# Altium integrated library ISSI SRAM Synchronous SRAM No-Wait(ZBT).IntLib: 1246 symbols (part 29 of 152)
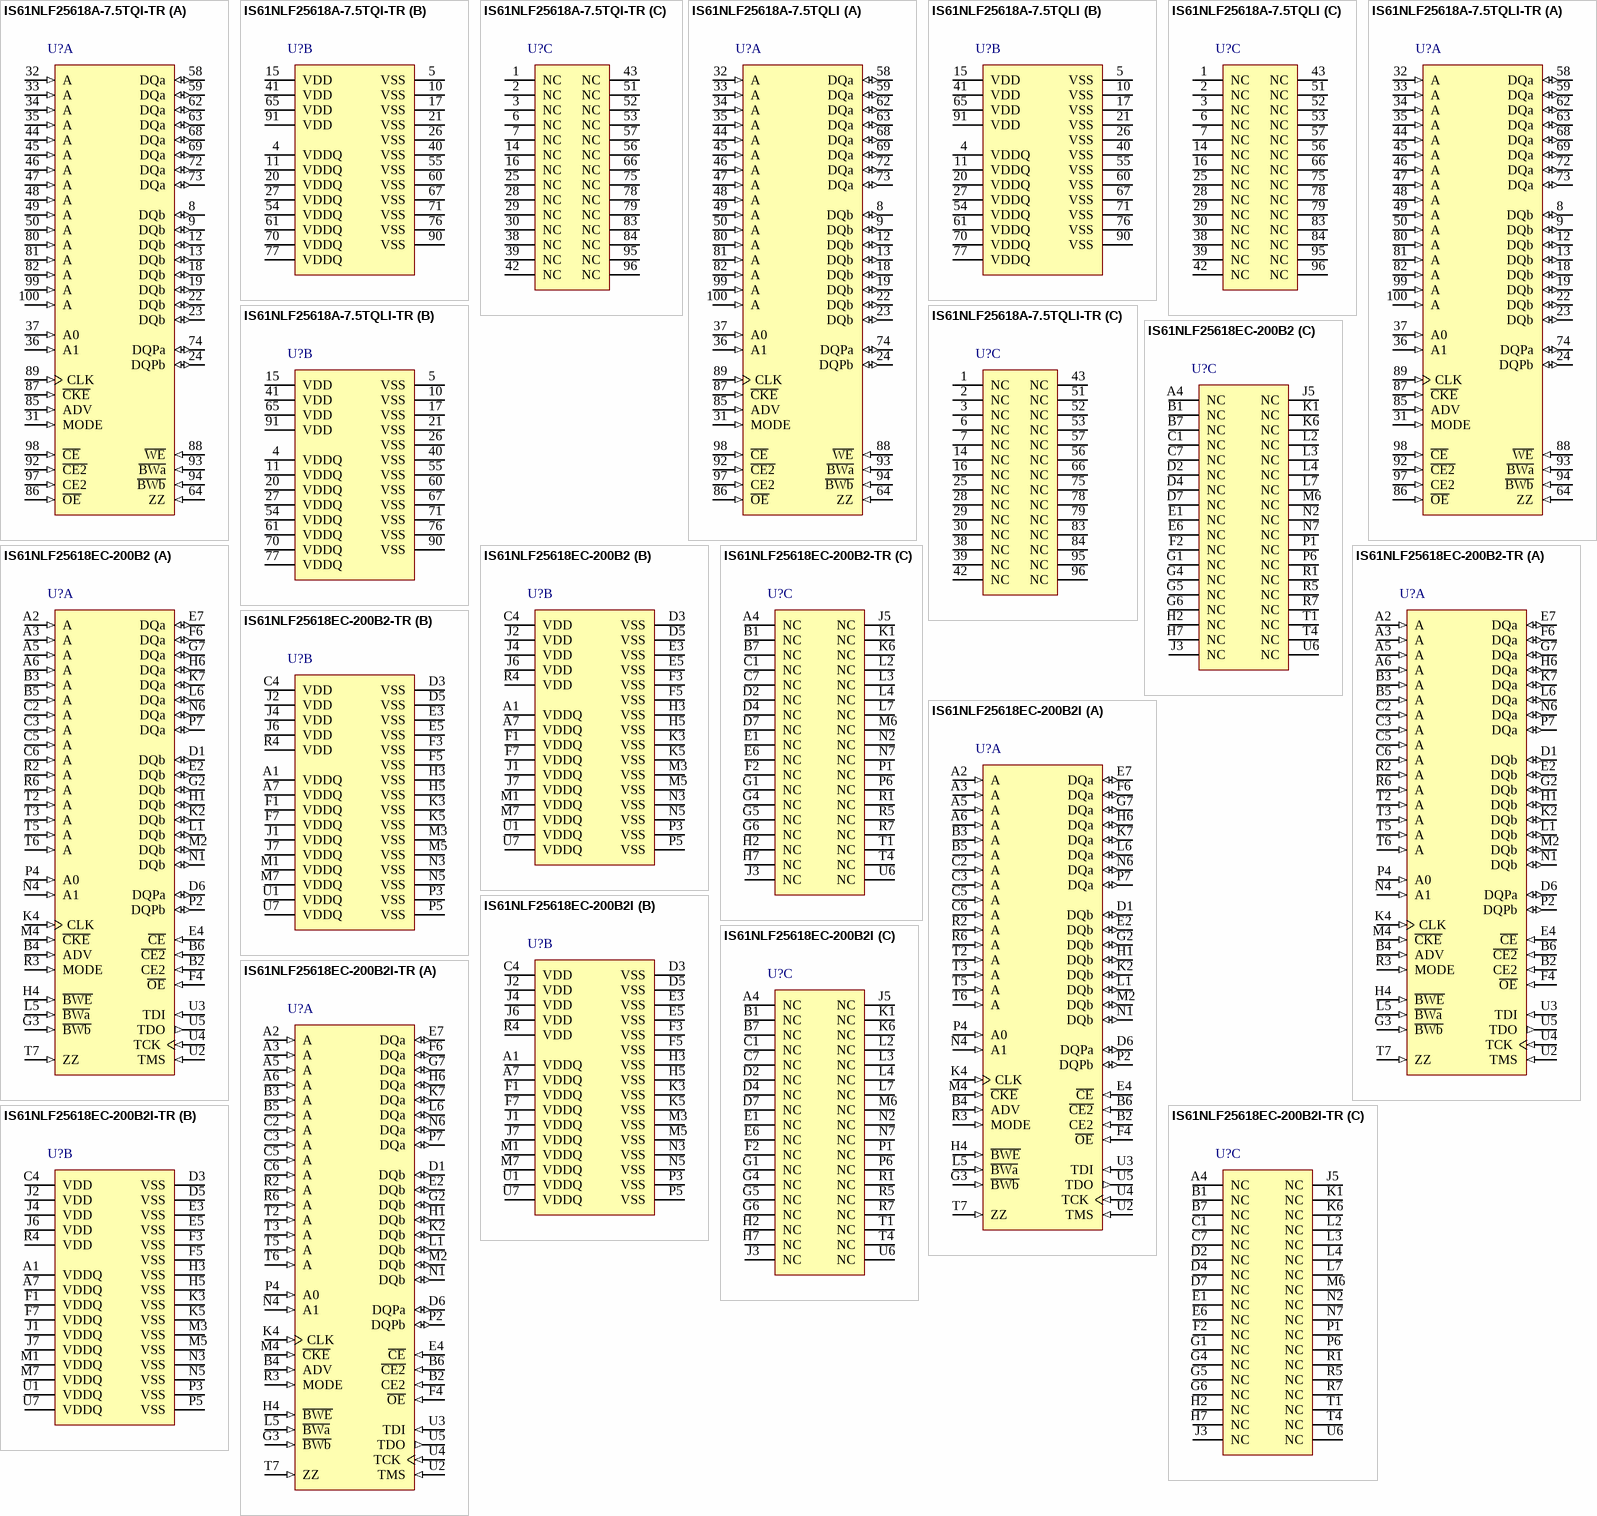
[diagram p252: symbols IS61NLF25618A-7.5TQI-TR to IS61NLF25618EC-200B2I-TR]

## IS61NLF25618A-7.5TQI-TR
designator U?
4 M Flow Through 'No Wait' State Bus SRAM, 256 K x 18, -40 to 85 degC, 100-Pin QFP (TQFP-100); Manufacturer: Integrated Silicon Solution Inc (ISSI); PartNumber: IS61NLF25618A-7.5TQI-TR; Density: 4M; Packing: Tape & Reel; Vcc: 3.3 V; VccQ: 2.5 / 3.3 V; DatasheetVersion: Rev. D; PackageVersion: Rev. F, 09/2009; PackageReference: TQFP-100; PackageDescription: 100-Pin 20 x 14 mm LQFP, Pitch 0.65 mm; Supplier 1: Mouser; Supplier Part Number 1: 87061NLF25618A75TQIT; Organization: 256Kx18; Mounting Technology: Surface Mount; ComponentLink1Description: Manufacturer URL; ComponentLink1URL: http://www.issi.com/US/index.shtml; ComponentLink2Description: Datasheet; ComponentLink2URL: http://www.issi.com/WW/pdf/61NLF_NVF12836A_25618A.pdf; ComponentLink3Description: Package Specification; ComponentLink3URL: http://www.issi.com/WW/pdf/61VPS_LPS25636A_51218A.pdf
footprint ISSI-TQFP-100-20000X14000DE_N (QFP, 100-Leads, Body 20x14mm, Pitch 0.65mm, IPC Medium Density)
part A pins: 8 DQb (io) "Synchronous Data Input/Output", 9 DQb (io) "Synchronous Data Input/Output", 12 DQb (io) "Synchronous Data Input/Output", 13 DQb (io) "Synchronous Data Input/Output", 18 DQb (io) "Synchronous Data Input/Output", 19 DQb (io) "Synchronous Data Input/Output", 22 DQb (io) "Synchronous Data Input/Output", 23 DQb (io) "Synchronous Data Input/Output", 24 DQPb (io) "Parity Data I/O", 31 MODE (in) "Burst Sequence Selection", 32 A (in) "Synchronous Address Inputs", 33 A (in) "Synchronous Address Inputs", 34 A (in) "Synchronous Address Inputs", 35 A (in) "Synchronous Address Inputs", 36 A1 (in) "Synchronous Address Inputs. These pins must tied to the two LSBs of the address bus.", 37 A0 (in) "Synchronous Address Inputs. These pins must tied to the two LSBs of the address bus.", 44 A (in) "Synchronous Address Inputs", 45 A (in) "Synchronous Address Inputs", 46 A (in) "Synchronous Address Inputs", 47 A (in) "Synchronous Address Inputs", 48 A (in) "Synchronous Address Inputs", 49 A (in) "Synchronous Address Inputs", 50 A (in) "Synchronous Address Inputs", 58 DQa (io) "Synchronous Data Input/Output", 59 DQa (io) "Synchronous Data Input/Output", 62 DQa (io) "Synchronous Data Input/Output", 63 DQa (io) "Synchronous Data Input/Output", 64 ZZ (in) "Snooze Enable", 68 DQa (io) "Synchronous Data Input/Output", 69 DQa (io) "Synchronous Data Input/Output", 72 DQa (io) "Synchronous Data Input/Output", 73 DQa (io) "Synchronous Data Input/Output", 74 DQPa (io) "Parity Data I/O", 80 A (in) "Synchronous Address Inputs", 81 A (in) "Synchronous Address Inputs", 82 A (in) "Synchronous Address Inputs", 85 ADV (in) "Synchronous Burst Address Advance", 86 ~{OE} (in) "Output Enable", 87 ~{CKE} (in) "Clock Enable", 88 ~{WE} (in) "Write Enable", 89 CLK (in) "Synchronous Clock", 92 ~{CE2} (in) "Synchronous Chip Enable", 93 ~{BWa} (in) "Synchronous Byte Write Enable", 94 ~{BWb} (in) "Synchronous Byte Write Enable", 97 CE2 (in) "Synchronous Chip Enable", 98 ~{CE} (in) "Synchronous Chip Enable", 99 A (in) "Synchronous Address Inputs", 100 A (in) "Synchronous Address Inputs"
part B pins: 4 VDDQ (power) "I/O Power Supply", 5 VSS (power) "Ground", 10 VSS (power) "Ground", 11 VDDQ (power) "I/O Power Supply", 15 VDD (power) "Power Supply", 17 VSS (power) "Ground", 20 VDDQ (power) "I/O Power Supply", 21 VSS (power) "Ground", 26 VSS (power) "Ground", 27 VDDQ (power) "I/O Power Supply", 40 VSS (power) "Ground", 41 VDD (power) "Power Supply", 54 VDDQ (power) "I/O Power Supply", 55 VSS (power) "Ground", 60 VSS (power) "Ground", 61 VDDQ (power) "I/O Power Supply", 65 VDD (power) "Power Supply", 67 VSS (power) "Ground", 70 VDDQ (power) "I/O Power Supply", 71 VSS (power) "Ground", 76 VSS (power) "Ground", 77 VDDQ (power) "I/O Power Supply", 90 VSS (power) "Ground", 91 VDD (power) "Power Supply"
part C pins: 1 NC "Not Connected", 2 NC "Not Connected", 3 NC "Not Connected", 6 NC "Not Connected", 7 NC "Not Connected", 14 NC "Not Connected", 16 NC "Not Connected", 25 NC "Not Connected", 28 NC "Not Connected", 29 NC "Not Connected", 30 NC "Not Connected", 38 NC "Not Connected", 39 NC "Not Connected", 42 NC "Not Connected", 43 NC "Not Connected", 51 NC "Not Connected", 52 NC "Not Connected", 53 NC "Not Connected", 56 NC "Not Connected", 57 NC "Not Connected", 66 NC "Not Connected", 75 NC "Not Connected", 78 NC "Not Connected", 79 NC "Not Connected", 83 NC "Not Connected", 84 NC "Not Connected", 95 NC "Not Connected", 96 NC "Not Connected"

## IS61NLF25618A-7.5TQLI
designator U?
4 M Flow Through 'No Wait' State Bus SRAM, 256 K x 18, -40 to 85 degC, 100-Pin QFP (TQFP-100), Pb-free; Manufacturer: Integrated Silicon Solution Inc (ISSI); PartNumber: IS61NLF25618A-7.5TQLI; Density: 4M; Packing: Tray / Tube; Vcc: 3.3 V; VccQ: 2.5 / 3.3 V; DatasheetVersion: Rev. D; PackageVersion: Rev. F, 09/2009; PackageReference: TQFP-100; PackageDescription: 100-Pin 20 x 14 mm LQFP, Pitch 0.65 mm; Supplier 1: Digi-Key; Supplier Part Number 1: IS61NLF25618A-7.5TQLI-ND; Supplier 2: Newark; Supplier Part Number 2: 43M5287; Supplier 3: Mouser; Supplier Part Number 3: 87061NLF25618A75TQLI; Organization: 256Kx18; RoHS: Pb-Free; Mounting Technology: Surface Mount; ComponentLink1Description: Manufacturer URL; ComponentLink1URL: http://www.issi.com/US/index.shtml; ComponentLink2Description: Datasheet; ComponentLink2URL: http://www.issi.com/WW/pdf/61NLF_NVF12836A_25618A.pdf; ComponentLink3Description: Package Specification; ComponentLink3URL: http://www.issi.com/WW/pdf/61VPS_LPS25636A_51218A.pdf
footprint ISSI-TQFP-100-20000X14000DE_N (QFP, 100-Leads, Body 20x14mm, Pitch 0.65mm, IPC Medium Density)
part A pins: 8 DQb (io) "Synchronous Data Input/Output", 9 DQb (io) "Synchronous Data Input/Output", 12 DQb (io) "Synchronous Data Input/Output", 13 DQb (io) "Synchronous Data Input/Output", 18 DQb (io) "Synchronous Data Input/Output", 19 DQb (io) "Synchronous Data Input/Output", 22 DQb (io) "Synchronous Data Input/Output", 23 DQb (io) "Synchronous Data Input/Output", 24 DQPb (io) "Parity Data I/O", 31 MODE (in) "Burst Sequence Selection", 32 A (in) "Synchronous Address Inputs", 33 A (in) "Synchronous Address Inputs", 34 A (in) "Synchronous Address Inputs", 35 A (in) "Synchronous Address Inputs", 36 A1 (in) "Synchronous Address Inputs. These pins must tied to the two LSBs of the address bus.", 37 A0 (in) "Synchronous Address Inputs. These pins must tied to the two LSBs of the address bus.", 44 A (in) "Synchronous Address Inputs", 45 A (in) "Synchronous Address Inputs", 46 A (in) "Synchronous Address Inputs", 47 A (in) "Synchronous Address Inputs", 48 A (in) "Synchronous Address Inputs", 49 A (in) "Synchronous Address Inputs", 50 A (in) "Synchronous Address Inputs", 58 DQa (io) "Synchronous Data Input/Output", 59 DQa (io) "Synchronous Data Input/Output", 62 DQa (io) "Synchronous Data Input/Output", 63 DQa (io) "Synchronous Data Input/Output", 64 ZZ (in) "Snooze Enable", 68 DQa (io) "Synchronous Data Input/Output", 69 DQa (io) "Synchronous Data Input/Output", 72 DQa (io) "Synchronous Data Input/Output", 73 DQa (io) "Synchronous Data Input/Output", 74 DQPa (io) "Parity Data I/O", 80 A (in) "Synchronous Address Inputs", 81 A (in) "Synchronous Address Inputs", 82 A (in) "Synchronous Address Inputs", 85 ADV (in) "Synchronous Burst Address Advance", 86 ~{OE} (in) "Output Enable", 87 ~{CKE} (in) "Clock Enable", 88 ~{WE} (in) "Write Enable", 89 CLK (in) "Synchronous Clock", 92 ~{CE2} (in) "Synchronous Chip Enable", 93 ~{BWa} (in) "Synchronous Byte Write Enable", 94 ~{BWb} (in) "Synchronous Byte Write Enable", 97 CE2 (in) "Synchronous Chip Enable", 98 ~{CE} (in) "Synchronous Chip Enable", 99 A (in) "Synchronous Address Inputs", 100 A (in) "Synchronous Address Inputs"
part B pins: 4 VDDQ (power) "I/O Power Supply", 5 VSS (power) "Ground", 10 VSS (power) "Ground", 11 VDDQ (power) "I/O Power Supply", 15 VDD (power) "Power Supply", 17 VSS (power) "Ground", 20 VDDQ (power) "I/O Power Supply", 21 VSS (power) "Ground", 26 VSS (power) "Ground", 27 VDDQ (power) "I/O Power Supply", 40 VSS (power) "Ground", 41 VDD (power) "Power Supply", 54 VDDQ (power) "I/O Power Supply", 55 VSS (power) "Ground", 60 VSS (power) "Ground", 61 VDDQ (power) "I/O Power Supply", 65 VDD (power) "Power Supply", 67 VSS (power) "Ground", 70 VDDQ (power) "I/O Power Supply", 71 VSS (power) "Ground", 76 VSS (power) "Ground", 77 VDDQ (power) "I/O Power Supply", 90 VSS (power) "Ground", 91 VDD (power) "Power Supply"
part C pins: 1 NC "Not Connected", 2 NC "Not Connected", 3 NC "Not Connected", 6 NC "Not Connected", 7 NC "Not Connected", 14 NC "Not Connected", 16 NC "Not Connected", 25 NC "Not Connected", 28 NC "Not Connected", 29 NC "Not Connected", 30 NC "Not Connected", 38 NC "Not Connected", 39 NC "Not Connected", 42 NC "Not Connected", 43 NC "Not Connected", 51 NC "Not Connected", 52 NC "Not Connected", 53 NC "Not Connected", 56 NC "Not Connected", 57 NC "Not Connected", 66 NC "Not Connected", 75 NC "Not Connected", 78 NC "Not Connected", 79 NC "Not Connected", 83 NC "Not Connected", 84 NC "Not Connected", 95 NC "Not Connected", 96 NC "Not Connected"

## IS61NLF25618A-7.5TQLI-TR
designator U?
4 M Flow Through 'No Wait' State Bus SRAM, 256 K x 18, -40 to 85 degC, 100-Pin QFP (TQFP-100), Pb-Free; Manufacturer: Integrated Silicon Solution Inc (ISSI); PartNumber: IS61NLF25618A-7.5TQLI-TR; Density: 4M; Packing: Tape & Reel; Vcc: 3.3 V; VccQ: 2.5 / 3.3 V; DatasheetVersion: Rev. D; PackageVersion: Rev. F, 09/2009; PackageReference: TQFP-100; PackageDescription: 100-Pin 20 x 14 mm LQFP, Pitch 0.65 mm; Supplier 1: Digi-Key; Supplier Part Number 1: IS61NLF25618A-7.5TQLI-TR-ND; Supplier 2: Mouser; Supplier Part Number 2: 870NLF25618A75TQLIT; Organization: 256Kx18; RoHS: Pb-Free; Mounting Technology: Surface Mount; ComponentLink1Description: Manufacturer URL; ComponentLink1URL: http://www.issi.com/US/index.shtml; ComponentLink2Description: Datasheet; ComponentLink2URL: http://www.issi.com/WW/pdf/61NLF_NVF12836A_25618A.pdf; ComponentLink3Description: Package Specification; ComponentLink3URL: http://www.issi.com/WW/pdf/61VPS_LPS25636A_51218A.pdf
footprint ISSI-TQFP-100-20000X14000DE_N (QFP, 100-Leads, Body 20x14mm, Pitch 0.65mm, IPC Medium Density)
part A pins: 8 DQb (io) "Synchronous Data Input/Output", 9 DQb (io) "Synchronous Data Input/Output", 12 DQb (io) "Synchronous Data Input/Output", 13 DQb (io) "Synchronous Data Input/Output", 18 DQb (io) "Synchronous Data Input/Output", 19 DQb (io) "Synchronous Data Input/Output", 22 DQb (io) "Synchronous Data Input/Output", 23 DQb (io) "Synchronous Data Input/Output", 24 DQPb (io) "Parity Data I/O", 31 MODE (in) "Burst Sequence Selection", 32 A (in) "Synchronous Address Inputs", 33 A (in) "Synchronous Address Inputs", 34 A (in) "Synchronous Address Inputs", 35 A (in) "Synchronous Address Inputs", 36 A1 (in) "Synchronous Address Inputs. These pins must tied to the two LSBs of the address bus.", 37 A0 (in) "Synchronous Address Inputs. These pins must tied to the two LSBs of the address bus.", 44 A (in) "Synchronous Address Inputs", 45 A (in) "Synchronous Address Inputs", 46 A (in) "Synchronous Address Inputs", 47 A (in) "Synchronous Address Inputs", 48 A (in) "Synchronous Address Inputs", 49 A (in) "Synchronous Address Inputs", 50 A (in) "Synchronous Address Inputs", 58 DQa (io) "Synchronous Data Input/Output", 59 DQa (io) "Synchronous Data Input/Output", 62 DQa (io) "Synchronous Data Input/Output", 63 DQa (io) "Synchronous Data Input/Output", 64 ZZ (in) "Snooze Enable", 68 DQa (io) "Synchronous Data Input/Output", 69 DQa (io) "Synchronous Data Input/Output", 72 DQa (io) "Synchronous Data Input/Output", 73 DQa (io) "Synchronous Data Input/Output", 74 DQPa (io) "Parity Data I/O", 80 A (in) "Synchronous Address Inputs", 81 A (in) "Synchronous Address Inputs", 82 A (in) "Synchronous Address Inputs", 85 ADV (in) "Synchronous Burst Address Advance", 86 ~{OE} (in) "Output Enable", 87 ~{CKE} (in) "Clock Enable", 88 ~{WE} (in) "Write Enable", 89 CLK (in) "Synchronous Clock", 92 ~{CE2} (in) "Synchronous Chip Enable", 93 ~{BWa} (in) "Synchronous Byte Write Enable", 94 ~{BWb} (in) "Synchronous Byte Write Enable", 97 CE2 (in) "Synchronous Chip Enable", 98 ~{CE} (in) "Synchronous Chip Enable", 99 A (in) "Synchronous Address Inputs", 100 A (in) "Synchronous Address Inputs"
part B pins: 4 VDDQ (power) "I/O Power Supply", 5 VSS (power) "Ground", 10 VSS (power) "Ground", 11 VDDQ (power) "I/O Power Supply", 15 VDD (power) "Power Supply", 17 VSS (power) "Ground", 20 VDDQ (power) "I/O Power Supply", 21 VSS (power) "Ground", 26 VSS (power) "Ground", 27 VDDQ (power) "I/O Power Supply", 40 VSS (power) "Ground", 41 VDD (power) "Power Supply", 54 VDDQ (power) "I/O Power Supply", 55 VSS (power) "Ground", 60 VSS (power) "Ground", 61 VDDQ (power) "I/O Power Supply", 65 VDD (power) "Power Supply", 67 VSS (power) "Ground", 70 VDDQ (power) "I/O Power Supply", 71 VSS (power) "Ground", 76 VSS (power) "Ground", 77 VDDQ (power) "I/O Power Supply", 90 VSS (power) "Ground", 91 VDD (power) "Power Supply"
part C pins: 1 NC "Not Connected", 2 NC "Not Connected", 3 NC "Not Connected", 6 NC "Not Connected", 7 NC "Not Connected", 14 NC "Not Connected", 16 NC "Not Connected", 25 NC "Not Connected", 28 NC "Not Connected", 29 NC "Not Connected", 30 NC "Not Connected", 38 NC "Not Connected", 39 NC "Not Connected", 42 NC "Not Connected", 43 NC "Not Connected", 51 NC "Not Connected", 52 NC "Not Connected", 53 NC "Not Connected", 56 NC "Not Connected", 57 NC "Not Connected", 66 NC "Not Connected", 75 NC "Not Connected", 78 NC "Not Connected", 79 NC "Not Connected", 83 NC "Not Connected", 84 NC "Not Connected", 95 NC "Not Connected", 96 NC "Not Connected"

## IS61NLF25618EC-200B2
designator U?
4 M Flow Through 'No Wait' State Bus Synchronous SRAM with ECC, 256 K x 18, 0 to 70 degC, 119-Pin BGA (PBGA-119); Manufacturer: Integrated Silicon Solution Inc (ISSI); PartNumber: IS61NLF25618EC-200B2; Density: 4M; Packing: Tray / Tube; Vcc: 3.3 V; VccQ: 2.5 / 3.3 V; DatasheetVersion: Rev. A; PackageVersion: Rev. D, 10/2008; PackageReference: PBGA-119; PackageDescription: 119-Pin 14 x 22 mm PBGA, Pitch 1.27 mm; Organization: 256Kx18; Mounting Technology: Surface Mount; Code_JEDEC: MS-028; ComponentLink1Description: Manufacturer URL; ComponentLink1URL: http://www.issi.com/US/index.shtml; ComponentLink2Description: Datasheet; ComponentLink2URL: http://www.issi.com/WW/pdf/61-64NLF_NVF12832EC-12836EC-25618EC.pdf; ComponentLink3Description: Package Specification; ComponentLink3URL: http://www.issi.com/WW/pdf/61NLP_NVP25636A_51218A.pdf
footprint ISSI-PBGA-119-14000X22000DE (BGA, 119-Balls, Body 22x14mm, Pitch 1.27mm)
part A pins: A2 A (in) "Synchronous Address Inputs", A3 A (in) "Synchronous Address Inputs", A5 A (in) "Synchronous Address Inputs", A6 A (in) "Synchronous Address Inputs", B2 CE2 (in) "Synchronous Chip Enable", B3 A (in) "Synchronous Address Inputs", B4 ADV (in) "Synchronous  Advance/Load", B5 A (in) "Synchronous Address Inputs", B6 ~{CE2} (in) "Synchronous Chip Enable", C2 A (in) "Synchronous Address Inputs", C3 A (in) "Synchronous Address Inputs", C5 A (in) "Synchronous Address Inputs", C6 A (in) "Synchronous Address Inputs", D1 DQb (io) "Synchronous Data Inputs/Outputs", D6 DQPa (io) "Synchronous Parity Data I/O", E2 DQb (io) "Synchronous Data Inputs/Outputs", E4 ~{CE} (in) "Synchronous Chip Enable", E7 DQa (io) "Synchronous Data Inputs/Outputs", F4 ~{OE} (in) "Asynchronous Output Enable", F6 DQa (io) "Synchronous Data Inputs/Outputs", G2 DQb (io) "Synchronous Data Inputs/Outputs", G3 ~{BWb} (in) "Synchronous Byte Write Inputs", G7 DQa (io) "Synchronous Data Inputs/Outputs", H1 DQb (io) "Synchronous Data Inputs/Outputs", H4 ~{BWE} (in) "Synchronous Byte Write Enable", H6 DQa (io) "Synchronous Data Inputs/Outputs", K2 DQb (io) "Synchronous Data Inputs/Outputs", K4 CLK (in) "Synchronous Clock", K7 DQa (io) "Synchronous Data Inputs/Outputs", L1 DQb (io) "Synchronous Data Inputs/Outputs", L5 ~{BWa} (in) "Synchronous Byte Write Inputs", L6 DQa (io) "Synchronous Data Inputs/Outputs", M2 DQb (io) "Synchronous Data Inputs/Outputs", M4 ~{CKE} (in) "Clock Enable", N1 DQb (io) "Synchronous Data Inputs/Outputs", N4 A1 (in) "Synchronous Burst Address Inputs", N6 DQa (io) "Synchronous Data Inputs/Outputs", P2 DQPb (io) "Synchronous Parity Data I/O", P4 A0 (in) "Synchronous Burst Address Inputs", P7 DQa (io) "Synchronous Data Inputs/Outputs", R2 A (in) "Synchronous Address Inputs", R3 MODE (in) "Burst Sequence Selection", R6 A (in) "Synchronous Address Inputs", T2 A (in) "Synchronous Address Inputs", T3 A (in) "Synchronous Address Inputs", T5 A (in) "Synchronous Address Inputs", T6 A (in) "Synchronous Address Inputs", T7 ZZ (in) "Asynchronous Power Sleep Mode", U2 TMS (in) "JTAG Pins", U3 TDI (in) "JTAG Pins", U4 TCK (in) "JTAG Pins", U5 TDO (out) "JTAG Pins"
part B pins: A1 VDDQ (power) "I/O Power Supply", A7 VDDQ (power) "I/O Power Supply", C4 VDD (power) "Power Supply", D3 VSS (power) "Ground", D5 VSS (power) "Ground", E3 VSS (power) "Ground", E5 VSS (power) "Ground", F1 VDDQ (power) "I/O Power Supply", F3 VSS (power) "Ground", F5 VSS (power) "Ground", F7 VDDQ (power) "I/O Power Supply", H3 VSS (power) "Ground", H5 VSS (power) "Ground", J1 VDDQ (power) "I/O Power Supply", J2 VDD (power) "Power Supply", J4 VDD (power) "Power Supply", J6 VDD (power) "Power Supply", J7 VDDQ (power) "I/O Power Supply", K3 VSS (power) "Ground", K5 VSS (power) "Ground", M1 VDDQ (power) "I/O Power Supply", M3 VSS (power) "Ground", M5 VSS (power) "Ground", M7 VDDQ (power) "I/O Power Supply", N3 VSS (power) "Ground", N5 VSS (power) "Ground", P3 VSS (power) "Ground", P5 VSS (power) "Ground", R4 VDD (power) "Power Supply", U1 VDDQ (power) "I/O Power Supply", U7 VDDQ (power) "I/O Power Supply"
part C pins: A4 NC "No Connect", B1 NC "No Connect", B7 NC "No Connect", C1 NC "No Connect", C7 NC "No Connect", D2 NC "No Connect", D4 NC "No Connect", D7 NC "No Connect", E1 NC "No Connect", E6 NC "No Connect", F2 NC "No Connect", G1 NC "No Connect", G4 NC "No Connect", G5 NC "No Connect", G6 NC "No Connect", H2 NC "No Connect", H7 NC "No Connect", J3 NC "No Connect", J5 NC "No Connect", K1 NC "No Connect", K6 NC "No Connect", L2 NC "No Connect", L3 NC "No Connect", L4 NC "No Connect", L7 NC "No Connect", M6 NC "No Connect", N2 NC "No Connect", N7 NC "No Connect", P1 NC "No Connect", P6 NC "No Connect", R1 NC "No Connect", R5 NC "No Connect", R7 NC "No Connect", T1 NC "No Connect", T4 NC "No Connect", U6 NC "No Connect"

## IS61NLF25618EC-200B2-TR
designator U?
4 M Flow Through 'No Wait' State Bus Synchronous SRAM with ECC, 256 K x 18, 0 to 70 degC, 119-Pin BGA (PBGA-119); Manufacturer: Integrated Silicon Solution Inc (ISSI); PartNumber: IS61NLF25618EC-200B2-TR; Density: 4M; Packing: Tape & Reel; Vcc: 3.3 V; VccQ: 2.5 / 3.3 V; DatasheetVersion: Rev. A; PackageVersion: Rev. D, 10/2008; PackageReference: PBGA-119; PackageDescription: 119-Pin 14 x 22 mm PBGA, Pitch 1.27 mm; Organization: 256Kx18; Mounting Technology: Surface Mount; Code_JEDEC: MS-028; ComponentLink1Description: Manufacturer URL; ComponentLink1URL: http://www.issi.com/US/index.shtml; ComponentLink2Description: Datasheet; ComponentLink2URL: http://www.issi.com/WW/pdf/61-64NLF_NVF12832EC-12836EC-25618EC.pdf; ComponentLink3Description: Package Specification; ComponentLink3URL: http://www.issi.com/WW/pdf/61NLP_NVP25636A_51218A.pdf
footprint ISSI-PBGA-119-14000X22000DE (BGA, 119-Balls, Body 22x14mm, Pitch 1.27mm)
part A pins: A2 A (in) "Synchronous Address Inputs", A3 A (in) "Synchronous Address Inputs", A5 A (in) "Synchronous Address Inputs", A6 A (in) "Synchronous Address Inputs", B2 CE2 (in) "Synchronous Chip Enable", B3 A (in) "Synchronous Address Inputs", B4 ADV (in) "Synchronous  Advance/Load", B5 A (in) "Synchronous Address Inputs", B6 ~{CE2} (in) "Synchronous Chip Enable", C2 A (in) "Synchronous Address Inputs", C3 A (in) "Synchronous Address Inputs", C5 A (in) "Synchronous Address Inputs", C6 A (in) "Synchronous Address Inputs", D1 DQb (io) "Synchronous Data Inputs/Outputs", D6 DQPa (io) "Synchronous Parity Data I/O", E2 DQb (io) "Synchronous Data Inputs/Outputs", E4 ~{CE} (in) "Synchronous Chip Enable", E7 DQa (io) "Synchronous Data Inputs/Outputs", F4 ~{OE} (in) "Asynchronous Output Enable", F6 DQa (io) "Synchronous Data Inputs/Outputs", G2 DQb (io) "Synchronous Data Inputs/Outputs", G3 ~{BWb} (in) "Synchronous Byte Write Inputs", G7 DQa (io) "Synchronous Data Inputs/Outputs", H1 DQb (io) "Synchronous Data Inputs/Outputs", H4 ~{BWE} (in) "Synchronous Byte Write Enable", H6 DQa (io) "Synchronous Data Inputs/Outputs", K2 DQb (io) "Synchronous Data Inputs/Outputs", K4 CLK (in) "Synchronous Clock", K7 DQa (io) "Synchronous Data Inputs/Outputs", L1 DQb (io) "Synchronous Data Inputs/Outputs", L5 ~{BWa} (in) "Synchronous Byte Write Inputs", L6 DQa (io) "Synchronous Data Inputs/Outputs", M2 DQb (io) "Synchronous Data Inputs/Outputs", M4 ~{CKE} (in) "Clock Enable", N1 DQb (io) "Synchronous Data Inputs/Outputs", N4 A1 (in) "Synchronous Burst Address Inputs", N6 DQa (io) "Synchronous Data Inputs/Outputs", P2 DQPb (io) "Synchronous Parity Data I/O", P4 A0 (in) "Synchronous Burst Address Inputs", P7 DQa (io) "Synchronous Data Inputs/Outputs", R2 A (in) "Synchronous Address Inputs", R3 MODE (in) "Burst Sequence Selection", R6 A (in) "Synchronous Address Inputs", T2 A (in) "Synchronous Address Inputs", T3 A (in) "Synchronous Address Inputs", T5 A (in) "Synchronous Address Inputs", T6 A (in) "Synchronous Address Inputs", T7 ZZ (in) "Asynchronous Power Sleep Mode", U2 TMS (in) "JTAG Pins", U3 TDI (in) "JTAG Pins", U4 TCK (in) "JTAG Pins", U5 TDO (out) "JTAG Pins"
part B pins: A1 VDDQ (power) "I/O Power Supply", A7 VDDQ (power) "I/O Power Supply", C4 VDD (power) "Power Supply", D3 VSS (power) "Ground", D5 VSS (power) "Ground", E3 VSS (power) "Ground", E5 VSS (power) "Ground", F1 VDDQ (power) "I/O Power Supply", F3 VSS (power) "Ground", F5 VSS (power) "Ground", F7 VDDQ (power) "I/O Power Supply", H3 VSS (power) "Ground", H5 VSS (power) "Ground", J1 VDDQ (power) "I/O Power Supply", J2 VDD (power) "Power Supply", J4 VDD (power) "Power Supply", J6 VDD (power) "Power Supply", J7 VDDQ (power) "I/O Power Supply", K3 VSS (power) "Ground", K5 VSS (power) "Ground", M1 VDDQ (power) "I/O Power Supply", M3 VSS (power) "Ground", M5 VSS (power) "Ground", M7 VDDQ (power) "I/O Power Supply", N3 VSS (power) "Ground", N5 VSS (power) "Ground", P3 VSS (power) "Ground", P5 VSS (power) "Ground", R4 VDD (power) "Power Supply", U1 VDDQ (power) "I/O Power Supply", U7 VDDQ (power) "I/O Power Supply"
part C pins: A4 NC "No Connect", B1 NC "No Connect", B7 NC "No Connect", C1 NC "No Connect", C7 NC "No Connect", D2 NC "No Connect", D4 NC "No Connect", D7 NC "No Connect", E1 NC "No Connect", E6 NC "No Connect", F2 NC "No Connect", G1 NC "No Connect", G4 NC "No Connect", G5 NC "No Connect", G6 NC "No Connect", H2 NC "No Connect", H7 NC "No Connect", J3 NC "No Connect", J5 NC "No Connect", K1 NC "No Connect", K6 NC "No Connect", L2 NC "No Connect", L3 NC "No Connect", L4 NC "No Connect", L7 NC "No Connect", M6 NC "No Connect", N2 NC "No Connect", N7 NC "No Connect", P1 NC "No Connect", P6 NC "No Connect", R1 NC "No Connect", R5 NC "No Connect", R7 NC "No Connect", T1 NC "No Connect", T4 NC "No Connect", U6 NC "No Connect"

## IS61NLF25618EC-200B2I
designator U?
4 M Flow Through 'No Wait' State Bus Synchronous SRAM with ECC, 256 K x 18, -40 to 85 degC, 119-Pin BGA (PBGA-119); Manufacturer: Integrated Silicon Solution Inc (ISSI); PartNumber: IS61NLF25618EC-200B2I; Density: 4M; Packing: Tray / Tube; Vcc: 3.3 V; VccQ: 2.5 / 3.3 V; DatasheetVersion: Rev. A; PackageVersion: Rev. D, 10/2008; PackageReference: PBGA-119; PackageDescription: 119-Pin 14 x 22 mm PBGA, Pitch 1.27 mm; Organization: 256Kx18; Mounting Technology: Surface Mount; Code_JEDEC: MS-028; ComponentLink1Description: Manufacturer URL; ComponentLink1URL: http://www.issi.com/US/index.shtml; ComponentLink2Description: Datasheet; ComponentLink2URL: http://www.issi.com/WW/pdf/61-64NLF_NVF12832EC-12836EC-25618EC.pdf; ComponentLink3Description: Package Specification; ComponentLink3URL: http://www.issi.com/WW/pdf/61NLP_NVP25636A_51218A.pdf
footprint ISSI-PBGA-119-14000X22000DE (BGA, 119-Balls, Body 22x14mm, Pitch 1.27mm)
part A pins: A2 A (in) "Synchronous Address Inputs", A3 A (in) "Synchronous Address Inputs", A5 A (in) "Synchronous Address Inputs", A6 A (in) "Synchronous Address Inputs", B2 CE2 (in) "Synchronous Chip Enable", B3 A (in) "Synchronous Address Inputs", B4 ADV (in) "Synchronous  Advance/Load", B5 A (in) "Synchronous Address Inputs", B6 ~{CE2} (in) "Synchronous Chip Enable", C2 A (in) "Synchronous Address Inputs", C3 A (in) "Synchronous Address Inputs", C5 A (in) "Synchronous Address Inputs", C6 A (in) "Synchronous Address Inputs", D1 DQb (io) "Synchronous Data Inputs/Outputs", D6 DQPa (io) "Synchronous Parity Data I/O", E2 DQb (io) "Synchronous Data Inputs/Outputs", E4 ~{CE} (in) "Synchronous Chip Enable", E7 DQa (io) "Synchronous Data Inputs/Outputs", F4 ~{OE} (in) "Asynchronous Output Enable", F6 DQa (io) "Synchronous Data Inputs/Outputs", G2 DQb (io) "Synchronous Data Inputs/Outputs", G3 ~{BWb} (in) "Synchronous Byte Write Inputs", G7 DQa (io) "Synchronous Data Inputs/Outputs", H1 DQb (io) "Synchronous Data Inputs/Outputs", H4 ~{BWE} (in) "Synchronous Byte Write Enable", H6 DQa (io) "Synchronous Data Inputs/Outputs", K2 DQb (io) "Synchronous Data Inputs/Outputs", K4 CLK (in) "Synchronous Clock", K7 DQa (io) "Synchronous Data Inputs/Outputs", L1 DQb (io) "Synchronous Data Inputs/Outputs", L5 ~{BWa} (in) "Synchronous Byte Write Inputs", L6 DQa (io) "Synchronous Data Inputs/Outputs", M2 DQb (io) "Synchronous Data Inputs/Outputs", M4 ~{CKE} (in) "Clock Enable", N1 DQb (io) "Synchronous Data Inputs/Outputs", N4 A1 (in) "Synchronous Burst Address Inputs", N6 DQa (io) "Synchronous Data Inputs/Outputs", P2 DQPb (io) "Synchronous Parity Data I/O", P4 A0 (in) "Synchronous Burst Address Inputs", P7 DQa (io) "Synchronous Data Inputs/Outputs", R2 A (in) "Synchronous Address Inputs", R3 MODE (in) "Burst Sequence Selection", R6 A (in) "Synchronous Address Inputs", T2 A (in) "Synchronous Address Inputs", T3 A (in) "Synchronous Address Inputs", T5 A (in) "Synchronous Address Inputs", T6 A (in) "Synchronous Address Inputs", T7 ZZ (in) "Asynchronous Power Sleep Mode", U2 TMS (in) "JTAG Pins", U3 TDI (in) "JTAG Pins", U4 TCK (in) "JTAG Pins", U5 TDO (out) "JTAG Pins"
part B pins: A1 VDDQ (power) "I/O Power Supply", A7 VDDQ (power) "I/O Power Supply", C4 VDD (power) "Power Supply", D3 VSS (power) "Ground", D5 VSS (power) "Ground", E3 VSS (power) "Ground", E5 VSS (power) "Ground", F1 VDDQ (power) "I/O Power Supply", F3 VSS (power) "Ground", F5 VSS (power) "Ground", F7 VDDQ (power) "I/O Power Supply", H3 VSS (power) "Ground", H5 VSS (power) "Ground", J1 VDDQ (power) "I/O Power Supply", J2 VDD (power) "Power Supply", J4 VDD (power) "Power Supply", J6 VDD (power) "Power Supply", J7 VDDQ (power) "I/O Power Supply", K3 VSS (power) "Ground", K5 VSS (power) "Ground", M1 VDDQ (power) "I/O Power Supply", M3 VSS (power) "Ground", M5 VSS (power) "Ground", M7 VDDQ (power) "I/O Power Supply", N3 VSS (power) "Ground", N5 VSS (power) "Ground", P3 VSS (power) "Ground", P5 VSS (power) "Ground", R4 VDD (power) "Power Supply", U1 VDDQ (power) "I/O Power Supply", U7 VDDQ (power) "I/O Power Supply"
part C pins: A4 NC "No Connect", B1 NC "No Connect", B7 NC "No Connect", C1 NC "No Connect", C7 NC "No Connect", D2 NC "No Connect", D4 NC "No Connect", D7 NC "No Connect", E1 NC "No Connect", E6 NC "No Connect", F2 NC "No Connect", G1 NC "No Connect", G4 NC "No Connect", G5 NC "No Connect", G6 NC "No Connect", H2 NC "No Connect", H7 NC "No Connect", J3 NC "No Connect", J5 NC "No Connect", K1 NC "No Connect", K6 NC "No Connect", L2 NC "No Connect", L3 NC "No Connect", L4 NC "No Connect", L7 NC "No Connect", M6 NC "No Connect", N2 NC "No Connect", N7 NC "No Connect", P1 NC "No Connect", P6 NC "No Connect", R1 NC "No Connect", R5 NC "No Connect", R7 NC "No Connect", T1 NC "No Connect", T4 NC "No Connect", U6 NC "No Connect"

## IS61NLF25618EC-200B2I-TR
designator U?
4 M Flow Through 'No Wait' State Bus Synchronous SRAM with ECC, 256 K x 18, -40 to 85 degC, 119-Pin BGA (PBGA-119); Manufacturer: Integrated Silicon Solution Inc (ISSI); PartNumber: IS61NLF25618EC-200B2I-TR; Density: 4M; Packing: Tape & Reel; Vcc: 3.3 V; VccQ: 2.5 / 3.3 V; DatasheetVersion: Rev. A; PackageVersion: Rev. D, 10/2008; PackageReference: PBGA-119; PackageDescription: 119-Pin 14 x 22 mm PBGA, Pitch 1.27 mm; Organization: 256Kx18; Mounting Technology: Surface Mount; Code_JEDEC: MS-028; ComponentLink1Description: Manufacturer URL; ComponentLink1URL: http://www.issi.com/US/index.shtml; ComponentLink2Description: Datasheet; ComponentLink2URL: http://www.issi.com/WW/pdf/61-64NLF_NVF12832EC-12836EC-25618EC.pdf; ComponentLink3Description: Package Specification; ComponentLink3URL: http://www.issi.com/WW/pdf/61NLP_NVP25636A_51218A.pdf
footprint ISSI-PBGA-119-14000X22000DE (BGA, 119-Balls, Body 22x14mm, Pitch 1.27mm)
part A pins: A2 A (in) "Synchronous Address Inputs", A3 A (in) "Synchronous Address Inputs", A5 A (in) "Synchronous Address Inputs", A6 A (in) "Synchronous Address Inputs", B2 CE2 (in) "Synchronous Chip Enable", B3 A (in) "Synchronous Address Inputs", B4 ADV (in) "Synchronous  Advance/Load", B5 A (in) "Synchronous Address Inputs", B6 ~{CE2} (in) "Synchronous Chip Enable", C2 A (in) "Synchronous Address Inputs", C3 A (in) "Synchronous Address Inputs", C5 A (in) "Synchronous Address Inputs", C6 A (in) "Synchronous Address Inputs", D1 DQb (io) "Synchronous Data Inputs/Outputs", D6 DQPa (io) "Synchronous Parity Data I/O", E2 DQb (io) "Synchronous Data Inputs/Outputs", E4 ~{CE} (in) "Synchronous Chip Enable", E7 DQa (io) "Synchronous Data Inputs/Outputs", F4 ~{OE} (in) "Asynchronous Output Enable", F6 DQa (io) "Synchronous Data Inputs/Outputs", G2 DQb (io) "Synchronous Data Inputs/Outputs", G3 ~{BWb} (in) "Synchronous Byte Write Inputs", G7 DQa (io) "Synchronous Data Inputs/Outputs", H1 DQb (io) "Synchronous Data Inputs/Outputs", H4 ~{BWE} (in) "Synchronous Byte Write Enable", H6 DQa (io) "Synchronous Data Inputs/Outputs", K2 DQb (io) "Synchronous Data Inputs/Outputs", K4 CLK (in) "Synchronous Clock", K7 DQa (io) "Synchronous Data Inputs/Outputs", L1 DQb (io) "Synchronous Data Inputs/Outputs", L5 ~{BWa} (in) "Synchronous Byte Write Inputs", L6 DQa (io) "Synchronous Data Inputs/Outputs", M2 DQb (io) "Synchronous Data Inputs/Outputs", M4 ~{CKE} (in) "Clock Enable", N1 DQb (io) "Synchronous Data Inputs/Outputs", N4 A1 (in) "Synchronous Burst Address Inputs", N6 DQa (io) "Synchronous Data Inputs/Outputs", P2 DQPb (io) "Synchronous Parity Data I/O", P4 A0 (in) "Synchronous Burst Address Inputs", P7 DQa (io) "Synchronous Data Inputs/Outputs", R2 A (in) "Synchronous Address Inputs", R3 MODE (in) "Burst Sequence Selection", R6 A (in) "Synchronous Address Inputs", T2 A (in) "Synchronous Address Inputs", T3 A (in) "Synchronous Address Inputs", T5 A (in) "Synchronous Address Inputs", T6 A (in) "Synchronous Address Inputs", T7 ZZ (in) "Asynchronous Power Sleep Mode", U2 TMS (in) "JTAG Pins", U3 TDI (in) "JTAG Pins", U4 TCK (in) "JTAG Pins", U5 TDO (out) "JTAG Pins"
part B pins: A1 VDDQ (power) "I/O Power Supply", A7 VDDQ (power) "I/O Power Supply", C4 VDD (power) "Power Supply", D3 VSS (power) "Ground", D5 VSS (power) "Ground", E3 VSS (power) "Ground", E5 VSS (power) "Ground", F1 VDDQ (power) "I/O Power Supply", F3 VSS (power) "Ground", F5 VSS (power) "Ground", F7 VDDQ (power) "I/O Power Supply", H3 VSS (power) "Ground", H5 VSS (power) "Ground", J1 VDDQ (power) "I/O Power Supply", J2 VDD (power) "Power Supply", J4 VDD (power) "Power Supply", J6 VDD (power) "Power Supply", J7 VDDQ (power) "I/O Power Supply", K3 VSS (power) "Ground", K5 VSS (power) "Ground", M1 VDDQ (power) "I/O Power Supply", M3 VSS (power) "Ground", M5 VSS (power) "Ground", M7 VDDQ (power) "I/O Power Supply", N3 VSS (power) "Ground", N5 VSS (power) "Ground", P3 VSS (power) "Ground", P5 VSS (power) "Ground", R4 VDD (power) "Power Supply", U1 VDDQ (power) "I/O Power Supply", U7 VDDQ (power) "I/O Power Supply"
part C pins: A4 NC "No Connect", B1 NC "No Connect", B7 NC "No Connect", C1 NC "No Connect", C7 NC "No Connect", D2 NC "No Connect", D4 NC "No Connect", D7 NC "No Connect", E1 NC "No Connect", E6 NC "No Connect", F2 NC "No Connect", G1 NC "No Connect", G4 NC "No Connect", G5 NC "No Connect", G6 NC "No Connect", H2 NC "No Connect", H7 NC "No Connect", J3 NC "No Connect", J5 NC "No Connect", K1 NC "No Connect", K6 NC "No Connect", L2 NC "No Connect", L3 NC "No Connect", L4 NC "No Connect", L7 NC "No Connect", M6 NC "No Connect", N2 NC "No Connect", N7 NC "No Connect", P1 NC "No Connect", P6 NC "No Connect", R1 NC "No Connect", R5 NC "No Connect", R7 NC "No Connect", T1 NC "No Connect", T4 NC "No Connect", U6 NC "No Connect"

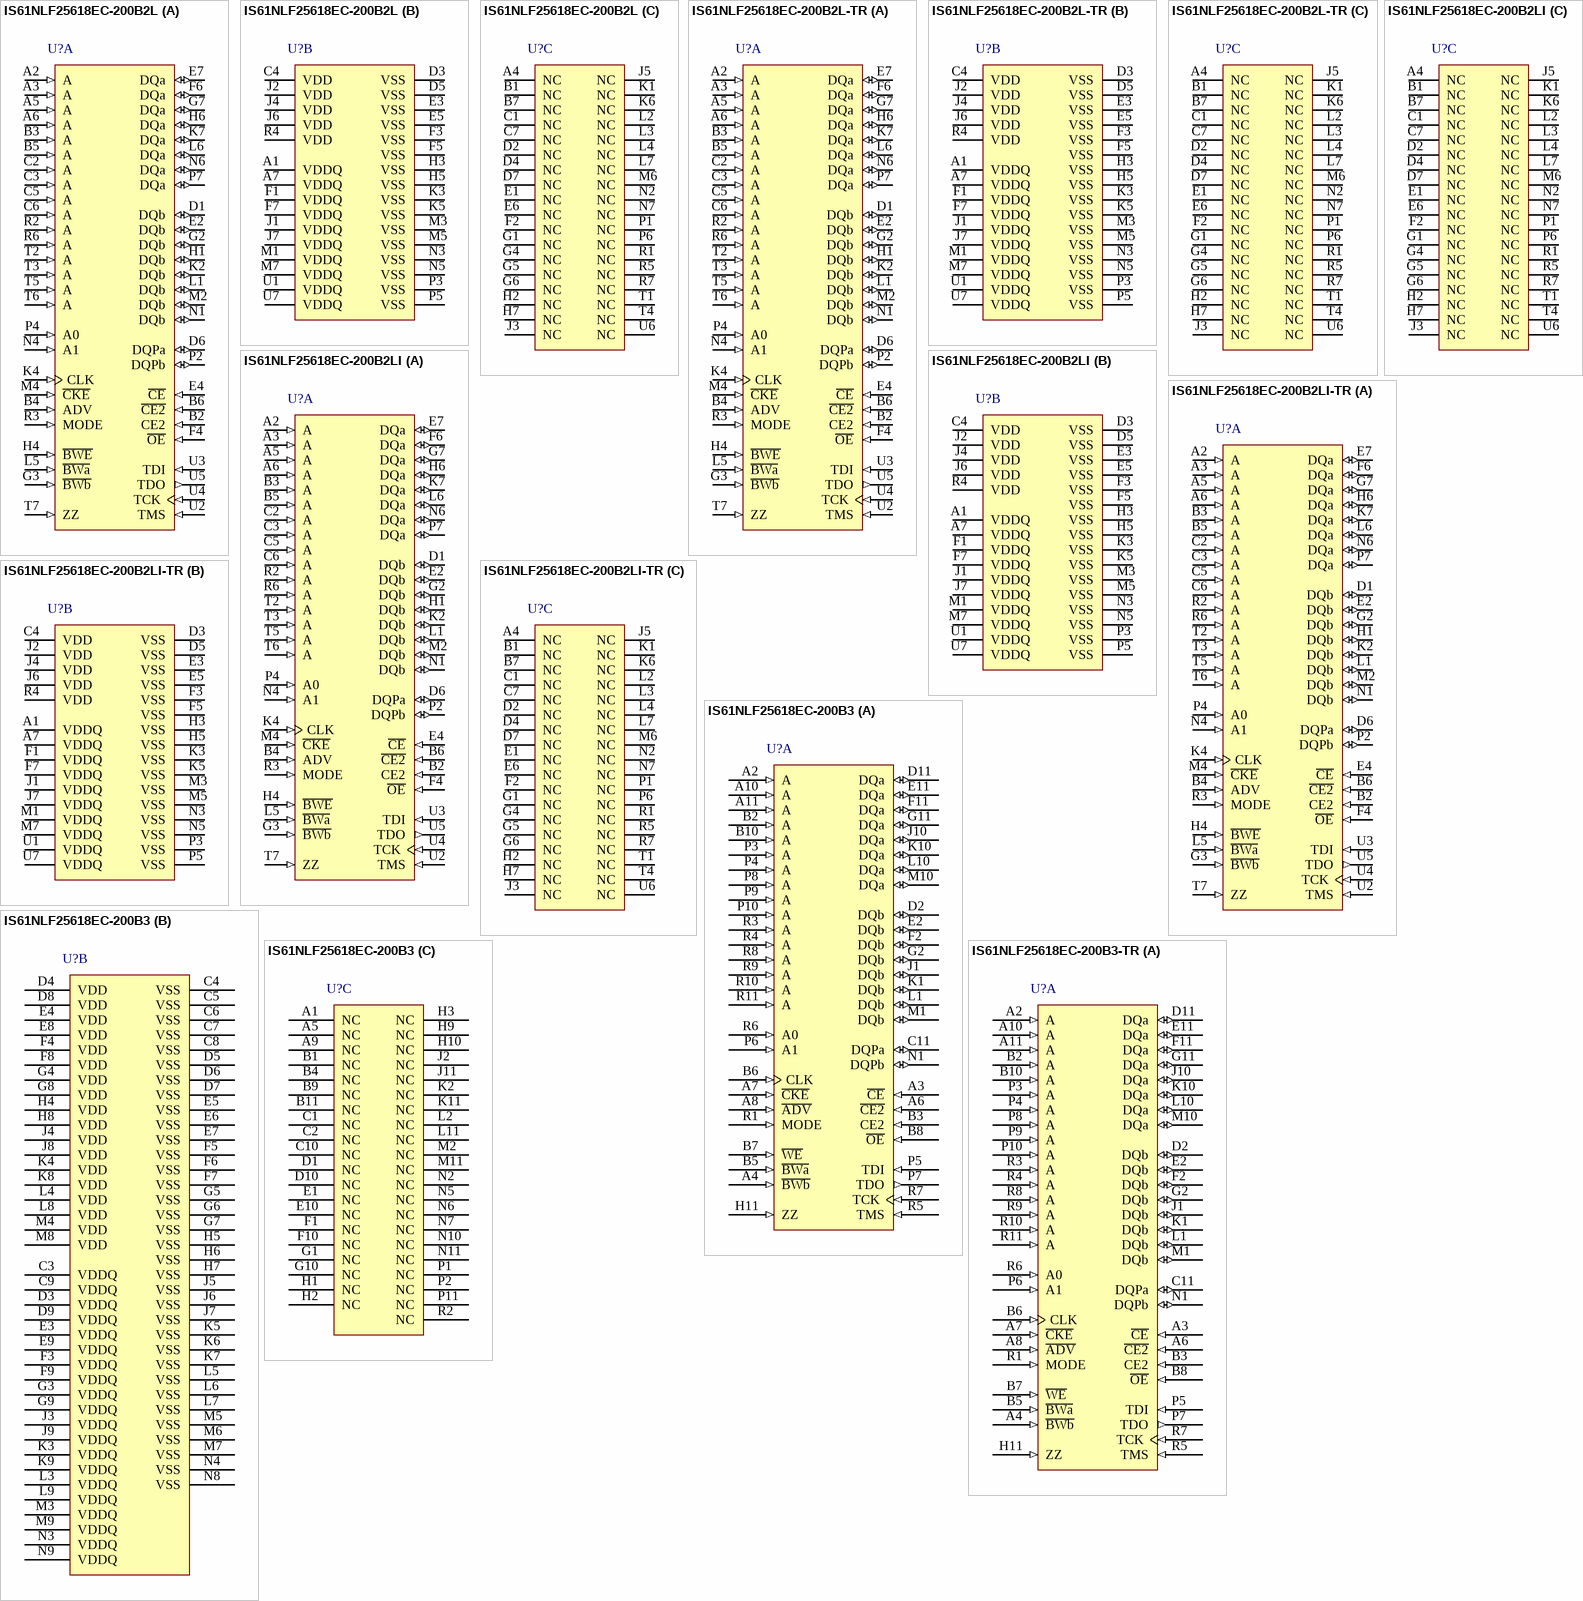
[diagram p30: symbols IS61NLF25618EC-200B2L to IS61NLF25618EC-200B3-TR]

## IS61NLF25618EC-200B2L
designator U?
4 M Flow Through 'No Wait' State Bus Synchronous SRAM with ECC, 256 K x 18, 0 to 70 degC, 119-Pin BGA (PBGA-119), Pb-Free; Manufacturer: Integrated Silicon Solution Inc (ISSI); PartNumber: IS61NLF25618EC-200B2L; Density: 4M; Packing: Tray / Tube; Vcc: 3.3 V; VccQ: 2.5 / 3.3 V; DatasheetVersion: Rev. A; PackageVersion: Rev. D, 10/2008; PackageReference: PBGA-119; PackageDescription: 119-Pin 14 x 22 mm PBGA, Pitch 1.27 mm; Organization: 256Kx18; RoHS: Pb-Free; Mounting Technology: Surface Mount; Code_JEDEC: MS-028; ComponentLink1Description: Manufacturer URL; ComponentLink1URL: http://www.issi.com/US/index.shtml; ComponentLink2Description: Datasheet; ComponentLink2URL: http://www.issi.com/WW/pdf/61-64NLF_NVF12832EC-12836EC-25618EC.pdf; ComponentLink3Description: Package Specification; ComponentLink3URL: http://www.issi.com/WW/pdf/61NLP_NVP25636A_51218A.pdf
footprint ISSI-PBGA-119-14000X22000DE (BGA, 119-Balls, Body 22x14mm, Pitch 1.27mm)
part A pins: A2 A (in) "Synchronous Address Inputs", A3 A (in) "Synchronous Address Inputs", A5 A (in) "Synchronous Address Inputs", A6 A (in) "Synchronous Address Inputs", B2 CE2 (in) "Synchronous Chip Enable", B3 A (in) "Synchronous Address Inputs", B4 ADV (in) "Synchronous  Advance/Load", B5 A (in) "Synchronous Address Inputs", B6 ~{CE2} (in) "Synchronous Chip Enable", C2 A (in) "Synchronous Address Inputs", C3 A (in) "Synchronous Address Inputs", C5 A (in) "Synchronous Address Inputs", C6 A (in) "Synchronous Address Inputs", D1 DQb (io) "Synchronous Data Inputs/Outputs", D6 DQPa (io) "Synchronous Parity Data I/O", E2 DQb (io) "Synchronous Data Inputs/Outputs", E4 ~{CE} (in) "Synchronous Chip Enable", E7 DQa (io) "Synchronous Data Inputs/Outputs", F4 ~{OE} (in) "Asynchronous Output Enable", F6 DQa (io) "Synchronous Data Inputs/Outputs", G2 DQb (io) "Synchronous Data Inputs/Outputs", G3 ~{BWb} (in) "Synchronous Byte Write Inputs", G7 DQa (io) "Synchronous Data Inputs/Outputs", H1 DQb (io) "Synchronous Data Inputs/Outputs", H4 ~{BWE} (in) "Synchronous Byte Write Enable", H6 DQa (io) "Synchronous Data Inputs/Outputs", K2 DQb (io) "Synchronous Data Inputs/Outputs", K4 CLK (in) "Synchronous Clock", K7 DQa (io) "Synchronous Data Inputs/Outputs", L1 DQb (io) "Synchronous Data Inputs/Outputs", L5 ~{BWa} (in) "Synchronous Byte Write Inputs", L6 DQa (io) "Synchronous Data Inputs/Outputs", M2 DQb (io) "Synchronous Data Inputs/Outputs", M4 ~{CKE} (in) "Clock Enable", N1 DQb (io) "Synchronous Data Inputs/Outputs", N4 A1 (in) "Synchronous Burst Address Inputs", N6 DQa (io) "Synchronous Data Inputs/Outputs", P2 DQPb (io) "Synchronous Parity Data I/O", P4 A0 (in) "Synchronous Burst Address Inputs", P7 DQa (io) "Synchronous Data Inputs/Outputs", R2 A (in) "Synchronous Address Inputs", R3 MODE (in) "Burst Sequence Selection", R6 A (in) "Synchronous Address Inputs", T2 A (in) "Synchronous Address Inputs", T3 A (in) "Synchronous Address Inputs", T5 A (in) "Synchronous Address Inputs", T6 A (in) "Synchronous Address Inputs", T7 ZZ (in) "Asynchronous Power Sleep Mode", U2 TMS (in) "JTAG Pins", U3 TDI (in) "JTAG Pins", U4 TCK (in) "JTAG Pins", U5 TDO (out) "JTAG Pins"
part B pins: A1 VDDQ (power) "I/O Power Supply", A7 VDDQ (power) "I/O Power Supply", C4 VDD (power) "Power Supply", D3 VSS (power) "Ground", D5 VSS (power) "Ground", E3 VSS (power) "Ground", E5 VSS (power) "Ground", F1 VDDQ (power) "I/O Power Supply", F3 VSS (power) "Ground", F5 VSS (power) "Ground", F7 VDDQ (power) "I/O Power Supply", H3 VSS (power) "Ground", H5 VSS (power) "Ground", J1 VDDQ (power) "I/O Power Supply", J2 VDD (power) "Power Supply", J4 VDD (power) "Power Supply", J6 VDD (power) "Power Supply", J7 VDDQ (power) "I/O Power Supply", K3 VSS (power) "Ground", K5 VSS (power) "Ground", M1 VDDQ (power) "I/O Power Supply", M3 VSS (power) "Ground", M5 VSS (power) "Ground", M7 VDDQ (power) "I/O Power Supply", N3 VSS (power) "Ground", N5 VSS (power) "Ground", P3 VSS (power) "Ground", P5 VSS (power) "Ground", R4 VDD (power) "Power Supply", U1 VDDQ (power) "I/O Power Supply", U7 VDDQ (power) "I/O Power Supply"
part C pins: A4 NC "No Connect", B1 NC "No Connect", B7 NC "No Connect", C1 NC "No Connect", C7 NC "No Connect", D2 NC "No Connect", D4 NC "No Connect", D7 NC "No Connect", E1 NC "No Connect", E6 NC "No Connect", F2 NC "No Connect", G1 NC "No Connect", G4 NC "No Connect", G5 NC "No Connect", G6 NC "No Connect", H2 NC "No Connect", H7 NC "No Connect", J3 NC "No Connect", J5 NC "No Connect", K1 NC "No Connect", K6 NC "No Connect", L2 NC "No Connect", L3 NC "No Connect", L4 NC "No Connect", L7 NC "No Connect", M6 NC "No Connect", N2 NC "No Connect", N7 NC "No Connect", P1 NC "No Connect", P6 NC "No Connect", R1 NC "No Connect", R5 NC "No Connect", R7 NC "No Connect", T1 NC "No Connect", T4 NC "No Connect", U6 NC "No Connect"

## IS61NLF25618EC-200B2L-TR
designator U?
4 M Flow Through 'No Wait' State Bus Synchronous SRAM with ECC, 256 K x 18, 0 to 70 degC, 119-Pin BGA (PBGA-119), Pb-Free; Manufacturer: Integrated Silicon Solution Inc (ISSI); PartNumber: IS61NLF25618EC-200B2L-TR; Density: 4M; Packing: Tape & Reel; Vcc: 3.3 V; VccQ: 2.5 / 3.3 V; DatasheetVersion: Rev. A; PackageVersion: Rev. D, 10/2008; PackageReference: PBGA-119; PackageDescription: 119-Pin 14 x 22 mm PBGA, Pitch 1.27 mm; Organization: 256Kx18; RoHS: Pb-Free; Mounting Technology: Surface Mount; Code_JEDEC: MS-028; ComponentLink1Description: Manufacturer URL; ComponentLink1URL: http://www.issi.com/US/index.shtml; ComponentLink2Description: Datasheet; ComponentLink2URL: http://www.issi.com/WW/pdf/61-64NLF_NVF12832EC-12836EC-25618EC.pdf; ComponentLink3Description: Package Specification; ComponentLink3URL: http://www.issi.com/WW/pdf/61NLP_NVP25636A_51218A.pdf
footprint ISSI-PBGA-119-14000X22000DE (BGA, 119-Balls, Body 22x14mm, Pitch 1.27mm)
part A pins: A2 A (in) "Synchronous Address Inputs", A3 A (in) "Synchronous Address Inputs", A5 A (in) "Synchronous Address Inputs", A6 A (in) "Synchronous Address Inputs", B2 CE2 (in) "Synchronous Chip Enable", B3 A (in) "Synchronous Address Inputs", B4 ADV (in) "Synchronous  Advance/Load", B5 A (in) "Synchronous Address Inputs", B6 ~{CE2} (in) "Synchronous Chip Enable", C2 A (in) "Synchronous Address Inputs", C3 A (in) "Synchronous Address Inputs", C5 A (in) "Synchronous Address Inputs", C6 A (in) "Synchronous Address Inputs", D1 DQb (io) "Synchronous Data Inputs/Outputs", D6 DQPa (io) "Synchronous Parity Data I/O", E2 DQb (io) "Synchronous Data Inputs/Outputs", E4 ~{CE} (in) "Synchronous Chip Enable", E7 DQa (io) "Synchronous Data Inputs/Outputs", F4 ~{OE} (in) "Asynchronous Output Enable", F6 DQa (io) "Synchronous Data Inputs/Outputs", G2 DQb (io) "Synchronous Data Inputs/Outputs", G3 ~{BWb} (in) "Synchronous Byte Write Inputs", G7 DQa (io) "Synchronous Data Inputs/Outputs", H1 DQb (io) "Synchronous Data Inputs/Outputs", H4 ~{BWE} (in) "Synchronous Byte Write Enable", H6 DQa (io) "Synchronous Data Inputs/Outputs", K2 DQb (io) "Synchronous Data Inputs/Outputs", K4 CLK (in) "Synchronous Clock", K7 DQa (io) "Synchronous Data Inputs/Outputs", L1 DQb (io) "Synchronous Data Inputs/Outputs", L5 ~{BWa} (in) "Synchronous Byte Write Inputs", L6 DQa (io) "Synchronous Data Inputs/Outputs", M2 DQb (io) "Synchronous Data Inputs/Outputs", M4 ~{CKE} (in) "Clock Enable", N1 DQb (io) "Synchronous Data Inputs/Outputs", N4 A1 (in) "Synchronous Burst Address Inputs", N6 DQa (io) "Synchronous Data Inputs/Outputs", P2 DQPb (io) "Synchronous Parity Data I/O", P4 A0 (in) "Synchronous Burst Address Inputs", P7 DQa (io) "Synchronous Data Inputs/Outputs", R2 A (in) "Synchronous Address Inputs", R3 MODE (in) "Burst Sequence Selection", R6 A (in) "Synchronous Address Inputs", T2 A (in) "Synchronous Address Inputs", T3 A (in) "Synchronous Address Inputs", T5 A (in) "Synchronous Address Inputs", T6 A (in) "Synchronous Address Inputs", T7 ZZ (in) "Asynchronous Power Sleep Mode", U2 TMS (in) "JTAG Pins", U3 TDI (in) "JTAG Pins", U4 TCK (in) "JTAG Pins", U5 TDO (out) "JTAG Pins"
part B pins: A1 VDDQ (power) "I/O Power Supply", A7 VDDQ (power) "I/O Power Supply", C4 VDD (power) "Power Supply", D3 VSS (power) "Ground", D5 VSS (power) "Ground", E3 VSS (power) "Ground", E5 VSS (power) "Ground", F1 VDDQ (power) "I/O Power Supply", F3 VSS (power) "Ground", F5 VSS (power) "Ground", F7 VDDQ (power) "I/O Power Supply", H3 VSS (power) "Ground", H5 VSS (power) "Ground", J1 VDDQ (power) "I/O Power Supply", J2 VDD (power) "Power Supply", J4 VDD (power) "Power Supply", J6 VDD (power) "Power Supply", J7 VDDQ (power) "I/O Power Supply", K3 VSS (power) "Ground", K5 VSS (power) "Ground", M1 VDDQ (power) "I/O Power Supply", M3 VSS (power) "Ground", M5 VSS (power) "Ground", M7 VDDQ (power) "I/O Power Supply", N3 VSS (power) "Ground", N5 VSS (power) "Ground", P3 VSS (power) "Ground", P5 VSS (power) "Ground", R4 VDD (power) "Power Supply", U1 VDDQ (power) "I/O Power Supply", U7 VDDQ (power) "I/O Power Supply"
part C pins: A4 NC "No Connect", B1 NC "No Connect", B7 NC "No Connect", C1 NC "No Connect", C7 NC "No Connect", D2 NC "No Connect", D4 NC "No Connect", D7 NC "No Connect", E1 NC "No Connect", E6 NC "No Connect", F2 NC "No Connect", G1 NC "No Connect", G4 NC "No Connect", G5 NC "No Connect", G6 NC "No Connect", H2 NC "No Connect", H7 NC "No Connect", J3 NC "No Connect", J5 NC "No Connect", K1 NC "No Connect", K6 NC "No Connect", L2 NC "No Connect", L3 NC "No Connect", L4 NC "No Connect", L7 NC "No Connect", M6 NC "No Connect", N2 NC "No Connect", N7 NC "No Connect", P1 NC "No Connect", P6 NC "No Connect", R1 NC "No Connect", R5 NC "No Connect", R7 NC "No Connect", T1 NC "No Connect", T4 NC "No Connect", U6 NC "No Connect"

## IS61NLF25618EC-200B2LI
designator U?
4 M Flow Through 'No Wait' State Bus Synchronous SRAM with ECC, 256 K x 18, -40 to 85 degC, 119-Pin BGA (PBGA-119), Pb-Free; Manufacturer: Integrated Silicon Solution Inc (ISSI); PartNumber: IS61NLF25618EC-200B2LI; Density: 4M; Packing: Tray / Tube; Vcc: 3.3 V; VccQ: 2.5 / 3.3 V; DatasheetVersion: Rev. A; PackageVersion: Rev. D, 10/2008; PackageReference: PBGA-119; PackageDescription: 119-Pin 14 x 22 mm PBGA, Pitch 1.27 mm; Organization: 256Kx18; RoHS: Pb-Free; Mounting Technology: Surface Mount; Code_JEDEC: MS-028; ComponentLink1Description: Manufacturer URL; ComponentLink1URL: http://www.issi.com/US/index.shtml; ComponentLink2Description: Datasheet; ComponentLink2URL: http://www.issi.com/WW/pdf/61-64NLF_NVF12832EC-12836EC-25618EC.pdf; ComponentLink3Description: Package Specification; ComponentLink3URL: http://www.issi.com/WW/pdf/61NLP_NVP25636A_51218A.pdf
footprint ISSI-PBGA-119-14000X22000DE (BGA, 119-Balls, Body 22x14mm, Pitch 1.27mm)
part A pins: A2 A (in) "Synchronous Address Inputs", A3 A (in) "Synchronous Address Inputs", A5 A (in) "Synchronous Address Inputs", A6 A (in) "Synchronous Address Inputs", B2 CE2 (in) "Synchronous Chip Enable", B3 A (in) "Synchronous Address Inputs", B4 ADV (in) "Synchronous  Advance/Load", B5 A (in) "Synchronous Address Inputs", B6 ~{CE2} (in) "Synchronous Chip Enable", C2 A (in) "Synchronous Address Inputs", C3 A (in) "Synchronous Address Inputs", C5 A (in) "Synchronous Address Inputs", C6 A (in) "Synchronous Address Inputs", D1 DQb (io) "Synchronous Data Inputs/Outputs", D6 DQPa (io) "Synchronous Parity Data I/O", E2 DQb (io) "Synchronous Data Inputs/Outputs", E4 ~{CE} (in) "Synchronous Chip Enable", E7 DQa (io) "Synchronous Data Inputs/Outputs", F4 ~{OE} (in) "Asynchronous Output Enable", F6 DQa (io) "Synchronous Data Inputs/Outputs", G2 DQb (io) "Synchronous Data Inputs/Outputs", G3 ~{BWb} (in) "Synchronous Byte Write Inputs", G7 DQa (io) "Synchronous Data Inputs/Outputs", H1 DQb (io) "Synchronous Data Inputs/Outputs", H4 ~{BWE} (in) "Synchronous Byte Write Enable", H6 DQa (io) "Synchronous Data Inputs/Outputs", K2 DQb (io) "Synchronous Data Inputs/Outputs", K4 CLK (in) "Synchronous Clock", K7 DQa (io) "Synchronous Data Inputs/Outputs", L1 DQb (io) "Synchronous Data Inputs/Outputs", L5 ~{BWa} (in) "Synchronous Byte Write Inputs", L6 DQa (io) "Synchronous Data Inputs/Outputs", M2 DQb (io) "Synchronous Data Inputs/Outputs", M4 ~{CKE} (in) "Clock Enable", N1 DQb (io) "Synchronous Data Inputs/Outputs", N4 A1 (in) "Synchronous Burst Address Inputs", N6 DQa (io) "Synchronous Data Inputs/Outputs", P2 DQPb (io) "Synchronous Parity Data I/O", P4 A0 (in) "Synchronous Burst Address Inputs", P7 DQa (io) "Synchronous Data Inputs/Outputs", R2 A (in) "Synchronous Address Inputs", R3 MODE (in) "Burst Sequence Selection", R6 A (in) "Synchronous Address Inputs", T2 A (in) "Synchronous Address Inputs", T3 A (in) "Synchronous Address Inputs", T5 A (in) "Synchronous Address Inputs", T6 A (in) "Synchronous Address Inputs", T7 ZZ (in) "Asynchronous Power Sleep Mode", U2 TMS (in) "JTAG Pins", U3 TDI (in) "JTAG Pins", U4 TCK (in) "JTAG Pins", U5 TDO (out) "JTAG Pins"
part B pins: A1 VDDQ (power) "I/O Power Supply", A7 VDDQ (power) "I/O Power Supply", C4 VDD (power) "Power Supply", D3 VSS (power) "Ground", D5 VSS (power) "Ground", E3 VSS (power) "Ground", E5 VSS (power) "Ground", F1 VDDQ (power) "I/O Power Supply", F3 VSS (power) "Ground", F5 VSS (power) "Ground", F7 VDDQ (power) "I/O Power Supply", H3 VSS (power) "Ground", H5 VSS (power) "Ground", J1 VDDQ (power) "I/O Power Supply", J2 VDD (power) "Power Supply", J4 VDD (power) "Power Supply", J6 VDD (power) "Power Supply", J7 VDDQ (power) "I/O Power Supply", K3 VSS (power) "Ground", K5 VSS (power) "Ground", M1 VDDQ (power) "I/O Power Supply", M3 VSS (power) "Ground", M5 VSS (power) "Ground", M7 VDDQ (power) "I/O Power Supply", N3 VSS (power) "Ground", N5 VSS (power) "Ground", P3 VSS (power) "Ground", P5 VSS (power) "Ground", R4 VDD (power) "Power Supply", U1 VDDQ (power) "I/O Power Supply", U7 VDDQ (power) "I/O Power Supply"
part C pins: A4 NC "No Connect", B1 NC "No Connect", B7 NC "No Connect", C1 NC "No Connect", C7 NC "No Connect", D2 NC "No Connect", D4 NC "No Connect", D7 NC "No Connect", E1 NC "No Connect", E6 NC "No Connect", F2 NC "No Connect", G1 NC "No Connect", G4 NC "No Connect", G5 NC "No Connect", G6 NC "No Connect", H2 NC "No Connect", H7 NC "No Connect", J3 NC "No Connect", J5 NC "No Connect", K1 NC "No Connect", K6 NC "No Connect", L2 NC "No Connect", L3 NC "No Connect", L4 NC "No Connect", L7 NC "No Connect", M6 NC "No Connect", N2 NC "No Connect", N7 NC "No Connect", P1 NC "No Connect", P6 NC "No Connect", R1 NC "No Connect", R5 NC "No Connect", R7 NC "No Connect", T1 NC "No Connect", T4 NC "No Connect", U6 NC "No Connect"